# EAGLE library part PIZERO_SMD (library pizero)
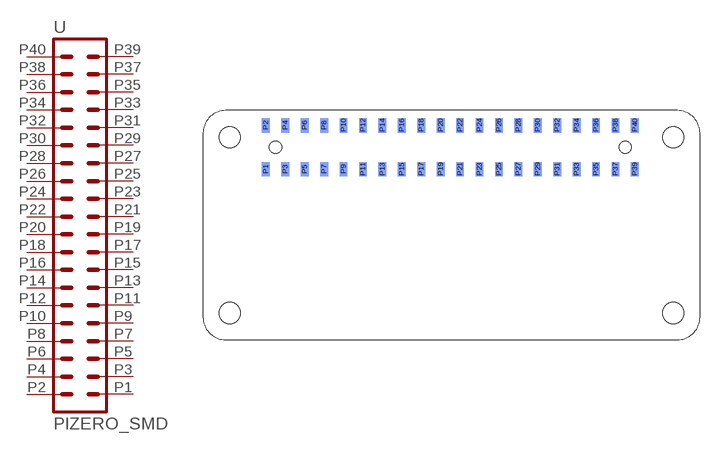
[diagram p1: symbol with the pads of PIZERO_SMD; footprint PIZERO_SMD]

Designator prefix -

## PIZERO_SMD  [PIZERO_SMD]
P1  1  pas
P2  2  pas
P3  3  pas
P4  4  pas
P5  5  pas
P6  6  pas
P7  7  pas
P8  8  pas
P9  9  pas
P10  10  pas
P11  11  pas
P12  12  pas
P13  13  pas
P14  14  pas
P15  15  pas
P16  16  pas
P17  17  pas
P18  18  pas
P19  19  pas
P20  20  pas
P21  21  pas
P22  22  pas
P23  23  pas
P24  24  pas
P25  25  pas
P26  26  pas
P27  27  pas
P28  28  pas
P29  29  pas
P30  30  pas
P31  31  pas
P32  32  pas
P33  33  pas
P34  34  pas
P35  35  pas
P36  36  pas
P37  37  pas
P38  38  pas
P39  39  pas
P40  40  pas

## Footprint PIZERO_SMD (pad centres in mm)
smd 1.02 x 1.87 bottom: P1 8.223,22.316; P2 8.223,28.046; P3 10.763,22.316; P4 10.763,28.046; P5 13.303,22.316; P6 13.303,28.046; P7 15.843,22.316; P8 15.843,28.046; P9 18.383,22.316; P10 18.383,28.046; P11 20.923,22.316; P12 20.923,28.046; P13 23.463,22.316; P14 23.463,28.046; P15 26.003,22.316; P16 26.003,28.046; P17 28.543,22.316; P18 28.543,28.046; P19 31.083,22.316; P20 31.083,28.046; P21 33.623,22.316; P22 33.623,28.046; P23 36.163,22.316; P24 36.163,28.046; P25 38.703,22.316; P26 38.703,28.046; P27 41.243,22.316; P28 41.243,28.046; P29 43.783,22.316; P30 43.783,28.046; P31 46.323,22.316; P32 46.323,28.046; P33 48.863,22.316; P34 48.863,28.046; P35 51.403,22.316; P36 51.403,28.046; P37 53.943,22.316; P38 53.943,28.046; P39 56.483,22.316; P40 56.483,28.046
hole 2.8 at 3.5,3.5
hole 2.8 at 3.5,26.5
hole 2.8 at 61.5,26.5
hole 2.8 at 61.5,3.5
hole 1.6 at 9.493,25.181
hole 1.6 at 55.213,25.181